# Altium footprint library HR911130A.PcbLib: 1 footprints
Each footprint in its own frame and in the unit in brackets; x right, y up, seen from the top. Pads: shape width x height; smd on the part's side, far side on the other; paste and mask are expansions set on the pad; w line width, h text height; cw(c..) or ccw(c..) is an arc to the next point about the centre after c.
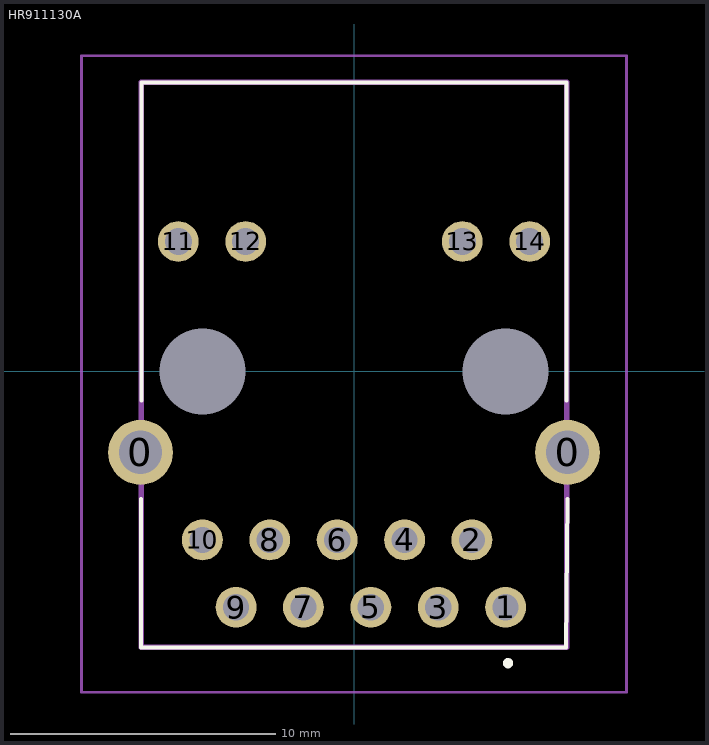
[diagram p0: the footprint, top view; thin cyan lines are the x and y axes]

## HR911130A [mm]
pads (18):
  round 2.445 hole 1.63: 0(-8.05,-3.05) 0(8.05,-3.05)
  round 1.54 hole 0.99: 1(5.715,-8.89) 2(4.445,-6.35) 3(3.175,-8.89) 4(1.905,-6.35) 5(0.635,-8.89) 6(-0.635,-6.35) 7(-1.905,-8.89) 8(-3.175,-6.35) 9(-4.445,-8.89) 10(-5.715,-6.35)
  round 1.53 hole 1.02: 11(-6.625,4.9) 12(-4.085,4.9) 13(4.085,4.9) 14(6.625,4.9)
  round 0 hole 3.25 unplated mask+1.725: 15(-5.715,0) 16(5.715,0)
Top Overlay:
  circle w0.2: c5.807,-11 r0.092
  lines w0.15: -8.023,-4.8 -8.023,-10.4 8,-10.4 8.05,-4.8 ; -8.02,-1.1 -8.02,10.9 8.02,10.9 8.02,-1.1
Bottom Overlay:
  circle w0.2: c5.8,-10.175 r0.092
Mechanical 15:
  lines w0.2: -8.02,-10.4 8.02,-10.4 8.02,10.9 -8.02,10.9 -8.02,-10.4
Mechanical 20:
  lines w0.1: -10.273,-12.092 10.273,-12.092 10.273,11.9 -10.273,11.9 -10.273,-12.092
3D body "HR911130A.stp": height 13.5, standoff -3, extent -7.94,-10.5 7.94,10.9